# Altium schematic symbol library MCP601T-E_OT.SchLib: 1 symbol
Pins are listed as number, name and electrical type; pins without a type are passive.

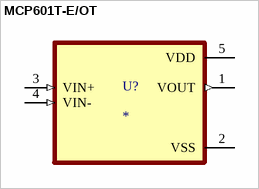
[diagram p0: symbol MCP601T-E/OT]

## MCP601T-E/OT
designator U?
MP: MCP601T-E/OT; MF: {'manufacturer': u'Microchip'}; Package: None; Price: None; Value: *; Availability: Unavailable
footprint SOT95P270X145-5N
pins: 1 VOUT (out), 2 VSS (power), 3 VIN+ (in), 4 VIN- (in), 5 VDD (power)